# EAGLE library part LED-RGB-6PIN (library Discreter)
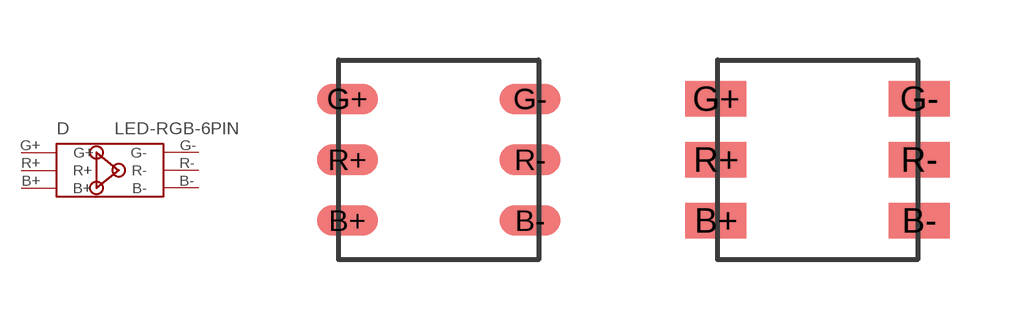
[diagram p10: symbol with the pads of 5050; footprints 5050, 6P-SMD-RGB-1.5-196.8X196.8]

Designator prefix D

## LED-RGB-6PIN-5050  [5050]
B+  B+
B-  B-
G+  G+
G-  G-
R+  R+
R-  R-

## LED-RGB-6PIN-WL  [6P-SMD-RGB-1.5-196.8X196.8]
Pads as for 5050

## Footprint 5050 (pad centres in mm)
smd 1.524 x 0.762: B+ -2.286,-1.524; B- 2.286,-1.524; G+ -2.286,1.524; G- 2.286,1.524; R+ -2.286,0; R- 2.286,0

## Footprint 6P-SMD-RGB-1.5-196.8X196.8 (pad centres in mm)
smd 1.524 x 0.889: B+ -2.54,-1.524; B- 2.54,-1.524; G+ -2.54,1.524; G- 2.54,1.524; R+ -2.54,0; R- 2.54,0